# EAGLE library part DB9 (library DB9_2_JST_GH)
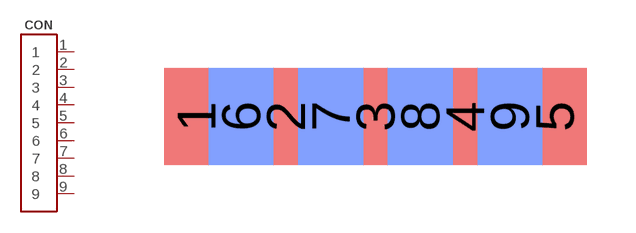
[diagram p1: symbol with the pads of D_SUB9; footprint D_SUB9]

Designator prefix CON

## DB9  [D_SUB9]
1  1
2  2
3  3
4  4
5  5
6  6
7  7
8  8
9  9

## Footprint D_SUB9 (pad centres in mm)
smd 2 x 3: 1 -5.54,0; 2 -2.77,0; 3 0,0; 4 2.77,0; 5 5.54,0
smd 2 x 3 bottom: 6 -4.155,0; 7 -1.385,0; 8 1.385,0; 9 4.155,0